# Altium footprint library OSC-SMD_2P-L3.2-W2.5_2022-02-28.PcbLib: 1 footprints
Each footprint in its own frame and in the unit in brackets; x right, y up, seen from the top. Pads: shape width x height; smd on the part's side, far side on the other; paste and mask are expansions set on the pad; w line width, h text height; cw(c..) or ccw(c..) is an arc to the next point about the centre after c.
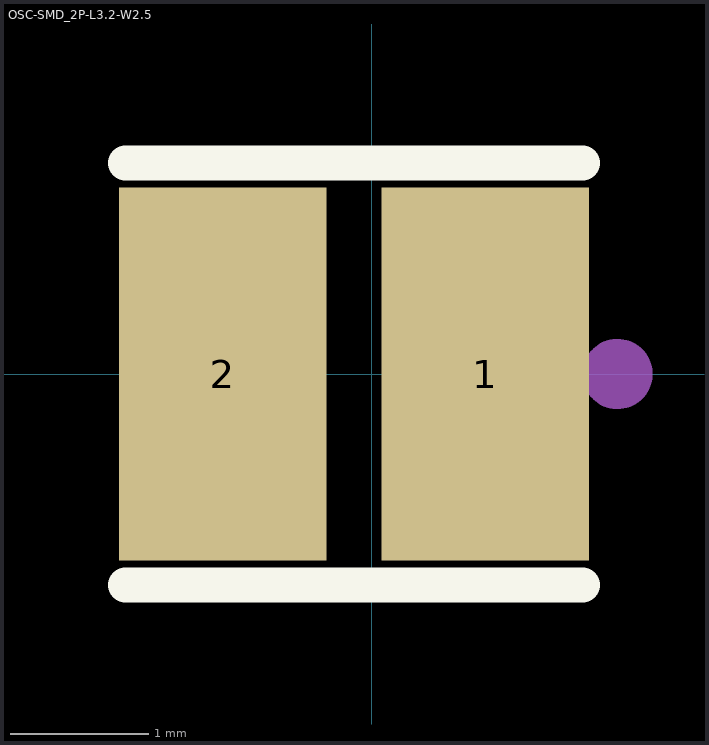
[diagram p0: the footprint, top view; thin cyan lines are the x and y axes]

## OSC-SMD_2P-L3.2-W2.5 [mm]
pads (2):
  rect 1.5x2.7 smd: 1(0.823,0) 2(-1.077,0)
Top Overlay:
  lines w0.254: -1.778,-1.524 1.524,-1.524 ; -1.778,1.524 1.524,1.524
Mechanical 15:
  circle w0.254: c1.778,0 r0.127